# Altium footprint library RES_TH_3mm.PcbLib: 1 footprints
Each footprint in its own frame and in the unit in brackets; x right, y up, seen from the top. Pads: shape width x height; smd on the part's side, far side on the other; paste and mask are expansions set on the pad; w line width, h text height; cw(c..) or ccw(c..) is an arc to the next point about the centre after c.
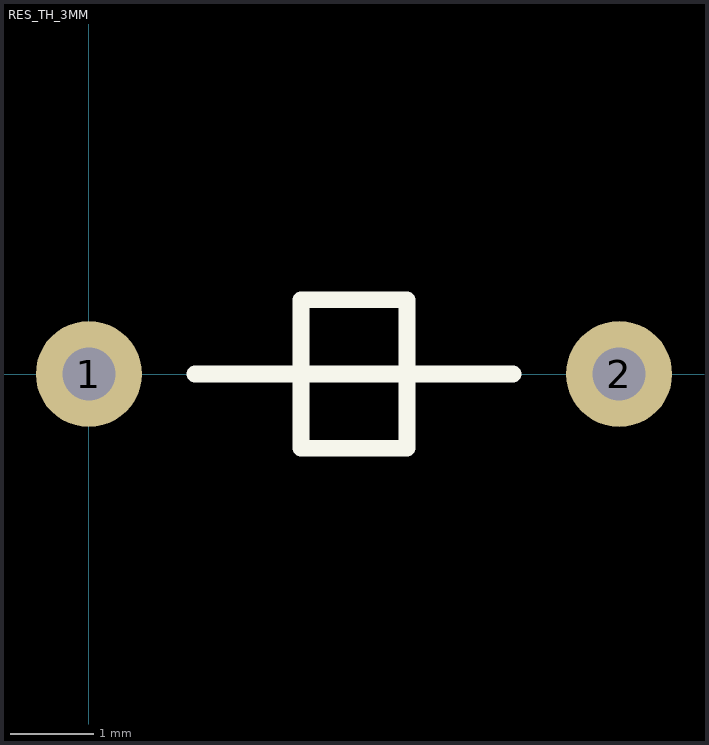
[diagram p0: the footprint, top view; thin cyan lines are the x and y axes]

## RES_TH_3MM [mil] "Resistor, through-hole, 0.125W, 3.3mm long, 1.7mm diameter, Stackpole CF18 Type"
height 70.87
pads (2):
  round 50 hole 25: 1(0,0) 2(250,0)
Top Overlay:
  lines w8: 50,0 150,0 ; 100,0 200,0 ; 150,0 150,-35 100,-35 100,35 150,35 150,0
Courtyards/Models-Top:
  text ".Designator" at 55.12,-15.75 h60